# Altium footprint library common.PcbLib: 2 footprints
Each footprint in its own frame and in the unit in brackets; x right, y up, seen from the top. Pads: shape width x height; smd on the part's side, far side on the other; paste and mask are expansions set on the pad; w line width, h text height; cw(c..) or ccw(c..) is an arc to the next point about the centre after c.
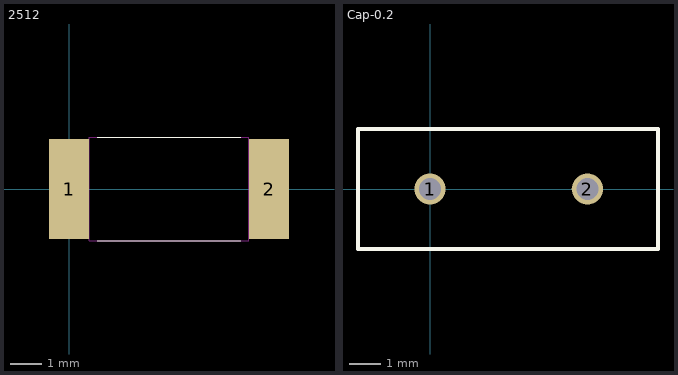
[diagram p0: the footprints below, top view; thin cyan lines are the x and y axes]

## 2512 [mm]
height 0.62
pads (2):
  rect 1.27x3.175 smd: 1(0,0) 2(6.35,0)
Top Overlay:
  lines w0.025: 0.889,-1.651 5.461,-1.651 ; 0.889,1.651 5.461,1.651
Keep-Out Layer:
  lines w0.025: 0.635,-1.651 5.715,-1.651 5.715,1.651 0.635,1.651 0.635,-1.651
3D body: height 0.62, standoff 0, extent 0.016,-1.6 6.335,1.6

## Cap-0.2 [mm] "Ceramic Capacitor, 0.2in Spacing"
pads (2):
  round 1 hole 0.7: 1(0,0) 2(5,0)
Top Overlay:
  lines w0.127: -2.286,-1.905 -2.286,1.905 7.239,1.905 7.239,-1.905 -2.286,-1.905